# Altium footprint library DPAK127P1336X457-8N.PcbLib: 1 footprints
Each footprint in its own frame and in the unit in brackets; x right, y up, seen from the top. Pads: shape width x height; smd on the part's side, far side on the other; paste and mask are expansions set on the pad; w line width, h text height; cw(c..) or ccw(c..) is an arc to the next point about the centre after c.
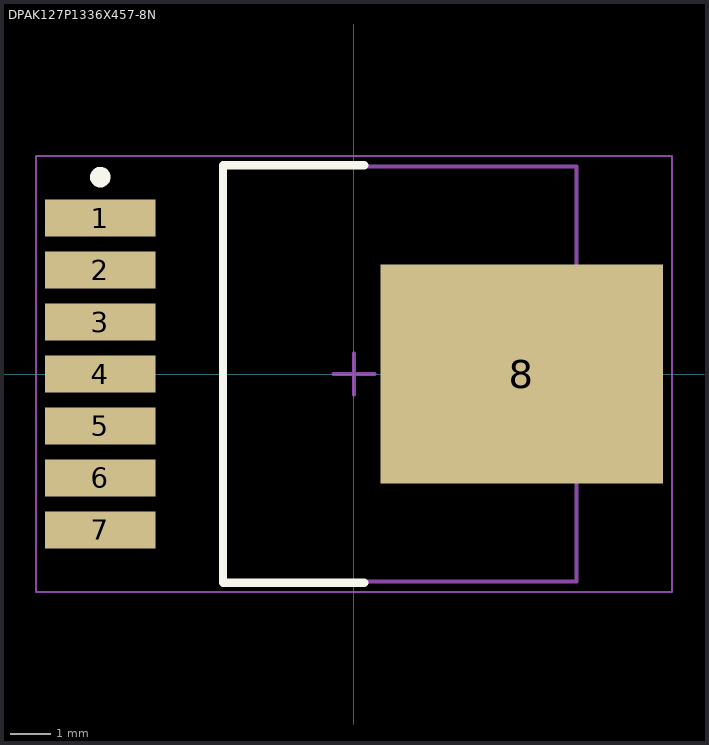
[diagram p0: the footprint, top view; thin cyan lines are the x and y axes]

## DPAK127P1336X457-8N [mm] "TO, 8-Pads, Body 7,42x8,44mm (max), IPC Medium Density"
height 4.57
pads (8):
  rect 2.7x0.9 smd: 1(-6.2,3.81) 2(-6.2,2.54) 3(-6.2,1.27) 4(-6.2,0) 5(-6.2,-1.27) 6(-6.2,-2.54) 7(-6.2,-3.81)
  rect 6.9x5.35 smd: 8(4.1,0)
Top Overlay:
  circle w0.25: c-6.2,4.81 r0.125
  lines w0.2: 0.25,-5.1 -3.2,-5.1 -3.2,5.1 0.25,5.1
Mechanical 13:
  lines w0.1: -3.2,-5.075 5.44,-5.075 5.44,5.075 -3.2,5.075 -3.2,-5.075
Mechanical 15:
  lines w0.05: -7.775,-5.325 7.775,-5.325 7.775,5.325 -7.775,5.325 -7.775,-5.325
  lines w0.1: -0.5,0 0.5,0 ; 0,-0.5 0,0.5
3D body: height 4.57, standoff 0, extent -3.2,-5.075 5.44,5.075